# Altium schematic symbol library jack_3pin.SchLib: 1 symbol
Pins are listed as number, name and electrical type; pins without a type are passive.

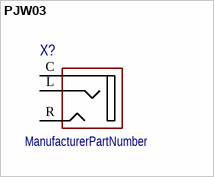
[diagram p0: symbol PJW03]

## PJW03
designator X?  (value not drawn)
ManufacturerPartNumber: ManufacturerPartNumber
pins: C, L, R